# EAGLE library part 218-104 (library JLB6_Connec)
Wago 4 position CAGE CLAMP slide switch
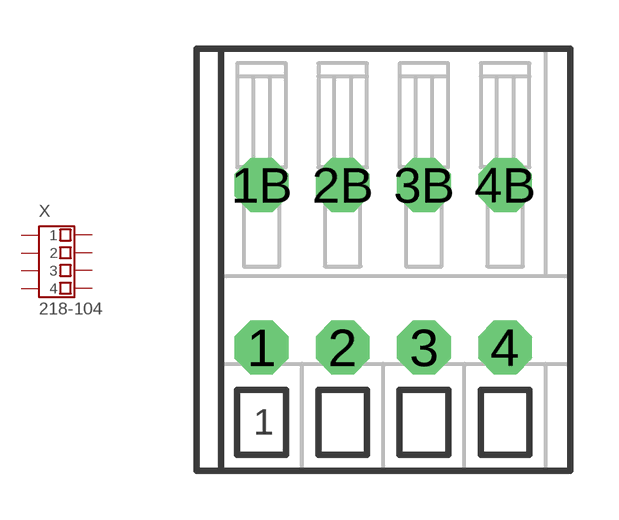
[diagram p60: symbol with the pads of 218-104-ROUND-250; footprint 218-104-ROUND-250]

Designator prefix X

## 218-104  [218-104-ROUND-250]
1  1  pas
1B  B-1  pas
2  2  pas
2B  B-2  pas
3  3  pas
3B  B-3  pas
4  4  pas
4B  B-4  pas

## Footprint 218-104-ROUND-250 (pad centres in mm)
Wago 4 position slide switch, 2.50 mm pitch
drill 1.1 octagon: 1 -3.75,-2.5; 1B -3.75,2.5; 2 -1.25,-2.5; 2B -1.25,2.5; 3 1.25,-2.5; 3B 1.25,2.5; 4 3.75,-2.5; 4B 3.75,2.5